# Altium schematic symbol library MC34063.SchLib: 1 symbol
Pins are listed as number, name and electrical type; pins without a type are passive.

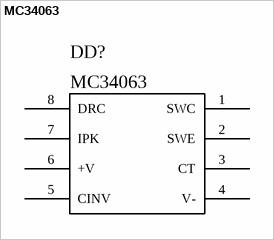
[diagram p0: symbol MC34063]

## MC34063
designator DD?
footprint MAX1771_DIP8 - duplicate
pins: 1 SWC, 2 SWE, 3 CT, 4 V-, 5 CINV, 6 +V, 7 IPK, 8 DRC